# EAGLE library part MEM_S25FL256S (library akita)
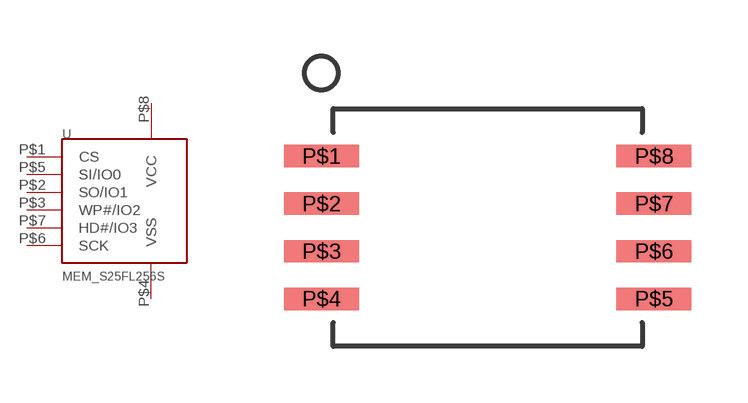
[diagram p85: symbol with the pads of WSON8; footprint WSON8]

Designator prefix -

## MEM_S25FL256S  [WSON8]
P$1  CS
P$2  SO/IO1
P$3  WP#/IO2
P$4  VSS
P$5  SI/IO0
P$6  SCK
P$7  HD#/IO3
P$8  VCC

## Footprint WSON8 (pad centres in mm)
smd 2 x 0.6: P$1 -4.445,1.905; P$2 -4.445,0.635; P$3 -4.445,-0.635; P$4 -4.445,-1.905; P$5 4.445,-1.905; P$6 4.445,-0.635; P$7 4.445,0.635; P$8 4.445,1.905